# Altium schematic symbol library ISO1050.Schlib: 1 symbol
Pins are listed as number, name and electrical type; pins without a type are passive.

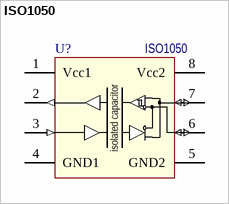
[diagram p0: symbol ISO1050]

## ISO1050
designator U?
Isolated CAN Transceiver; Назначение: Изолированный CAN приемник; Потребление, Вт: 0,001; ComponentLink1Description: Datasheet; ComponentLink1URL: http://www.ti.com/lit/ds/symlink/iso1050.pdf; Наименование: ISO1050
footprint SOP-8_ISO1050
pins: 1 Vcc1 (power), 2 RXD (out), 3 TXD (in), 4 GND1 (power), 5 GND2 (power), 6 cl (io) "CAN LOW", 7 ch (io) "CAN HIGHT", 8 Vcc2 (power)
text: isolated capacitor